# EAGLE library part TMP102AIDRLR (library VFD-Clock)
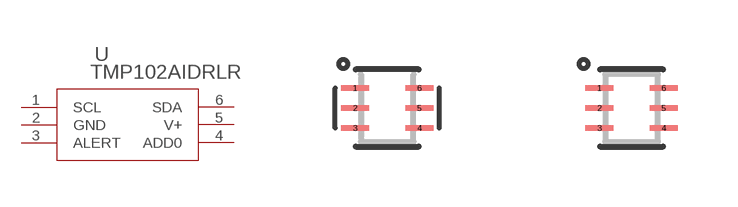
[diagram p3: symbol with the pads of DRL6; footprints DRL6, DRL6-M]

Designator prefix U

## TMP102AIDRLR (MANUFACTURER_PART_NUMBER: TMP102AIDRLR; VENDOR: Texas Instruments)  [DRL6]
1  SCL  pas
2  GND  pwr
3  ALERT  pas
4  ADD0  pas
5  V+  pwr
6  SDA  pas

## TMP102AIDRLRDRL6-M (MANUFACTURER_PART_NUMBER: TMP102AIDRLR; VENDOR: Texas Instruments)  [DRL6-M]
Pads as for DRL6

## TMP102AIDRLRDRL6-L (MANUFACTURER_PART_NUMBER: TMP102AIDRLR; VENDOR: Texas Instruments)  [DRL6-L]
Pads as for DRL6

## Footprint DRL6 (pad centres in mm)
smd 0.705 x 0.148: 1 -0.802,0.5; 2 -0.802,0; 3 -0.802,-0.5; 4 0.802,-0.5; 5 0.802,0; 6 0.802,0.5

## Footprint DRL6-M (pad centres in mm)
smd 0.705 x 0.148: 1 -0.802,0.5; 2 -0.802,0; 3 -0.802,-0.5; 4 0.802,-0.5; 5 0.802,0; 6 0.802,0.5

## Footprint DRL6-L (pad centres in mm)
smd 0.705 x 0.148: 1 -0.802,0.5; 2 -0.802,0; 3 -0.802,-0.5; 4 0.802,-0.5; 5 0.802,0; 6 0.802,0.5